# Altium footprint library Teensy41.PcbLib: 1 footprints
Each footprint in its own frame and in the unit in brackets; x right, y up, seen from the top. Pads: shape width x height; smd on the part's side, far side on the other; paste and mask are expansions set on the pad; w line width, h text height; cw(c..) or ccw(c..) is an arc to the next point about the centre after c.
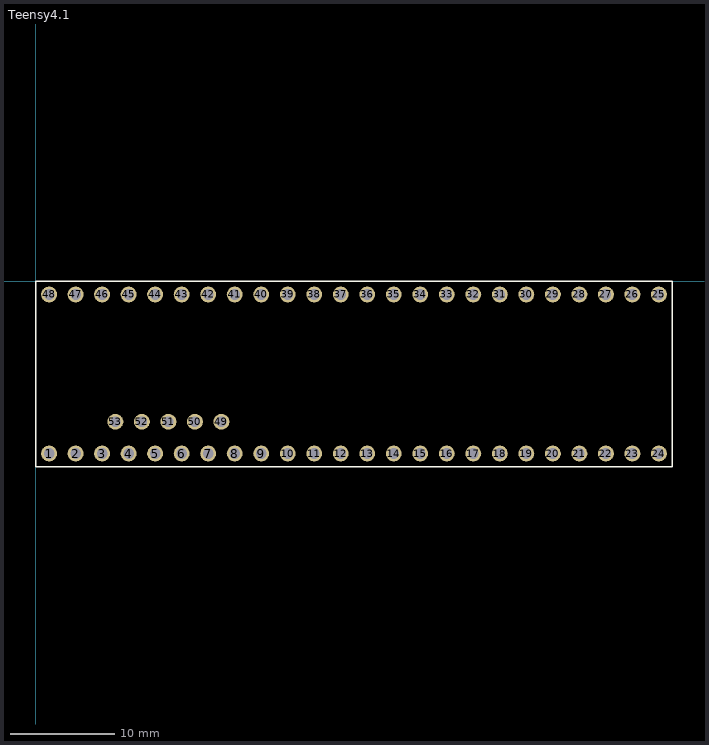
[diagram p0: the footprint, top view; thin cyan lines are the x and y axes]

## Teensy4.1 [mil]
pads (53):
  round 60 hole 40: 1(50,-650) 2(150,-650) 3(250,-650) 4(350,-650) 5(450,-650) 6(550,-650) 7(650,-650) 8(750,-650) 9(850,-650) 10(950,-650) 11(1050,-650) 12(1150,-650) 13(1250,-650) 14(1350,-650) 15(1450,-650) 16(1550,-650) 17(1650,-650) 18(1750,-650) 19(1850,-650) 20(1950,-650) 21(2050,-650) 22(2150,-650) 23(2250,-650) 24(2350,-650) 25(2350,-50) 26(2250,-50) 27(2150,-50) 28(2050,-50) 29(1950,-50) 30(1850,-50) 31(1750,-50) 32(1650,-50) 33(1550,-50) 34(1450,-50) 35(1350,-50) 36(1250,-50) 37(1150,-50) 38(1050,-50) 39(950,-50) 40(850,-50) 41(750,-50) 42(650,-50) 43(550,-50) 44(450,-50) 45(350,-50) 46(250,-50) 47(150,-50) 48(50,-50) 49(700,-529.92) 50(600,-529.92) 51(500,-529.92) 52(400,-529.92) 53(300,-529.92)
Top Overlay:
  lines w5: 0,-700 2400,-700 2400,0 0,0 0,-700
3D body "Teensy 4.1 (With Headers).step": height 291.15, standoff -263.11, extent -50,-700 2399.21,0